# EAGLE library part TMS320F28335 (library TMS320F28335)
32-bit floating-point C28x core DSC
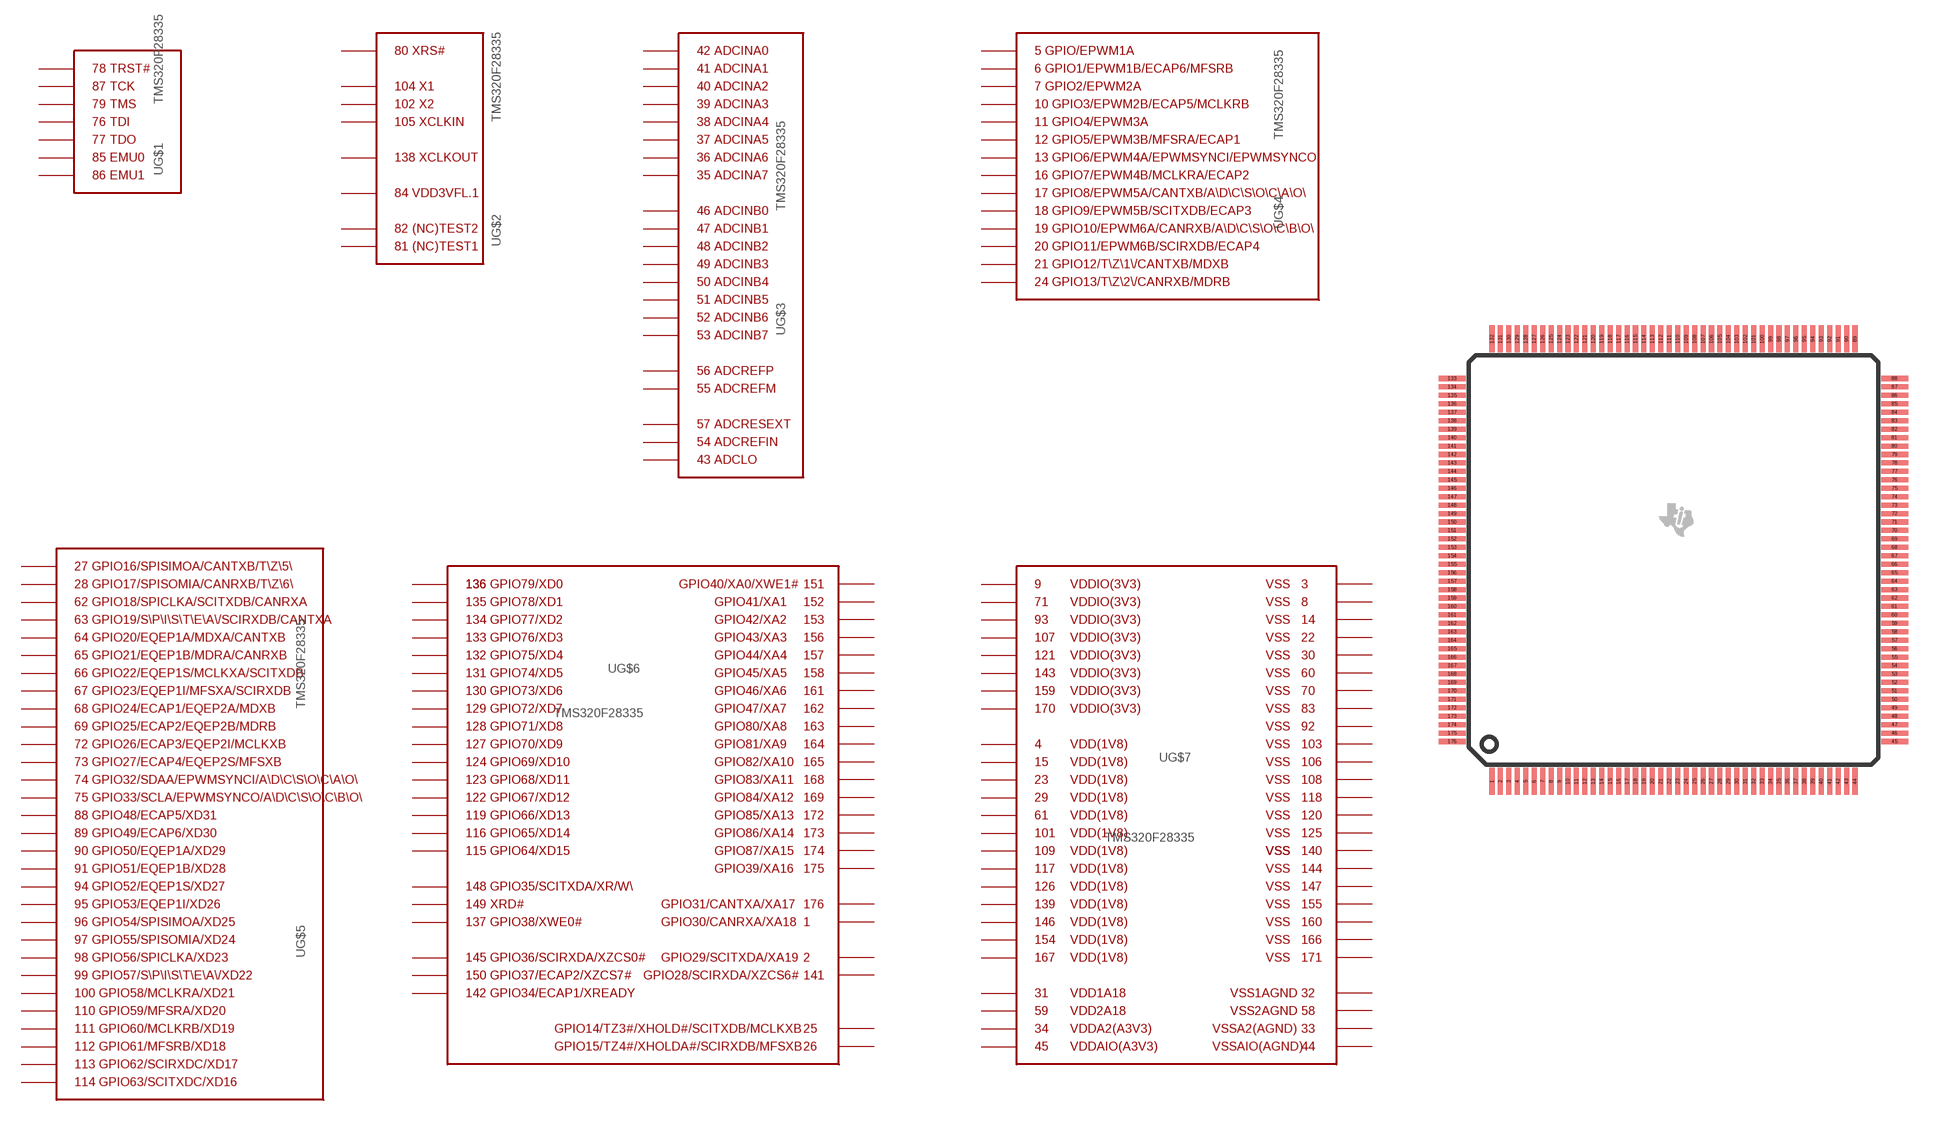
[diagram p0: symbol with the pads of LQFP176; footprint LQFP176]

Designator prefix U; gates G$1=28335_S1 G$2=28335_S2 G$3=28335_S3 G$4=28335_S4 G$5=28335_S5 G$6=28335_S6 G$7=28335_S7

## TMS320F28335  [LQFP176]
1  G$6:P$1
2  G$6:P$2
3  G$7:P$3
4  G$7:P$4
5  G$4:P$5
6  G$4:P$6
7  G$4:P$7
8  G$7:P$8
9  G$7:P$9
10  G$4:P$10
11  G$4:P$11
12  G$4:P$12
13  G$4:P$13
14  G$7:P$14
15  G$7:P$15
16  G$4:P$16
17  G$4:P$17
18  G$4:P$18
19  G$4:P$19
20  G$4:P$20
21  G$4:P$21
22  G$7:P$22
23  G$7:P$23
24  G$4:P$24
25  G$6:P$25
26  G$6:P$26
27  G$5:P$27
28  G$5:P$28
29  G$7:P$29
30  G$7:P$30
31  G$7:P$31
32  G$7:P$32
33  G$7:P$33
34  G$7:P$34
35  G$3:P$35
36  G$3:P$36
37  G$3:P$37
38  G$3:P$38
39  G$3:P$39
40  G$3:P$40
41  G$3:P$41
42  G$3:P$42
43  G$3:P$43
44  G$7:P$44
45  G$7:P$45
46  G$3:P$46
47  G$3:P$47
48  G$3:P$48
49  G$3:P$49
50  G$3:P$50
51  G$3:P$51
52  G$3:P$52
53  G$3:P$53
54  G$3:P$54
55  G$3:P$55
56  G$3:P$56
57  G$3:P$57
58  G$7:P$58
59  G$7:P$59
60  G$7:P$60
61  G$7:P$61
62  G$5:P$62
63  G$5:P$63
64  G$5:P$64
65  G$5:P$65
66  G$5:P$66
67  G$5:P$67
68  G$5:P$68
69  G$5:P$69
70  G$7:P$70
71  G$7:P$71
72  G$5:P$72
73  G$5:P$73
74  G$5:P$74
75  G$5:P$75
76  G$1:P$76
77  G$1:P$77
78  G$1:P$78
79  G$1:P$79
80  G$2:P$80
81  G$2:P$81
82  G$2:P$82
83  G$7:P$83
84  G$2:P$84
85  G$1:P$85
86  G$1:P$86
87  G$1:P$87
88  G$5:P$88
89  G$5:P$89
90  G$5:P$90
91  G$5:P$91
92  G$7:P$92
93  G$7:P$93
94  G$5:P$94
95  G$5:P$95
96  G$5:P$96
97  G$5:P$97
98  G$5:P$98
99  G$5:P$99
100  G$5:P$100
101  G$7:P$101
102  G$2:P$102
103  G$7:P$103
104  G$2:P$104
105  G$2:P$105
106  G$7:P$106
107  G$7:P$107
108  G$7:P$108
109  G$7:P$109
110  G$5:P$110
111  G$5:P$111
112  G$5:P$112
113  G$5:P$113
114  G$5:P$114
115  G$6:P$115
116  G$6:P$116
117  G$7:P$117
118  G$7:P$118
119  G$6:P$119
120  G$7:P$120
121  G$7:P$121
122  G$6:P$122
123  G$6:P$123
124  G$6:P$124
125  G$7:P$125
126  G$7:P$126
127  G$6:P$127
128  G$6:P$128
129  G$6:P$129
130  G$6:P$130
131  G$6:P$131
132  G$6:P$132
133  G$6:P$133
134  G$6:P$134
135  G$6:P$135
136  G$6:P$136
137  G$6:P$137
138  G$2:P$138
139  G$7:P$139
140  G$7:P$140
141  G$6:P$141
142  G$6:P$142
143  G$7:P$143
144  G$7:P$144
145  G$6:P$145
146  G$7:P$146
147  G$7:P$147
148  G$6:P$148
149  G$6:P$149
150  G$6:P$150
151  G$6:P$151
152  G$6:P$152
153  G$6:P$153
154  G$7:P$154
155  G$7:P$155
156  G$6:P$156
157  G$6:P$157
158  G$6:P$158
159  G$7:P$159
160  G$7:P$160
161  G$6:P$161
162  G$6:P$162
163  G$6:P$163
164  G$6:P$164
165  G$6:P$165
166  G$7:P$166
167  G$7:P$167
168  G$6:P$168
169  G$6:P$169
170  G$7:P$170
171  G$7:P$171
172  G$6:P$172
173  G$6:P$173
174  G$6:P$174
175  G$6:P$175
176  G$6:P$176

## Footprint LQFP176 (pad centres in mm)
smd 0.3 x 1.6: 1 -10.75,-13.1; 2 -10.25,-13.1; 3 -9.75,-13.1; 4 -9.25,-13.1; 5 -8.75,-13.1; 6 -8.25,-13.1; 7 -7.75,-13.1; 8 -7.25,-13.1; 9 -6.75,-13.1; 10 -6.25,-13.1; 11 -5.75,-13.1; 12 -5.25,-13.1; 13 -4.75,-13.1; 14 -4.25,-13.1; 15 -3.75,-13.1; 16 -3.25,-13.1; 17 -2.75,-13.1; 18 -2.25,-13.1; 19 -1.75,-13.1; 20 -1.25,-13.1; 21 -0.75,-13.1; 22 -0.25,-13.1; 23 0.25,-13.1; 24 0.75,-13.1; 25 1.25,-13.1; 26 1.75,-13.1; 27 2.25,-13.1; 28 2.75,-13.1; 29 3.25,-13.1; 30 3.75,-13.1; 31 4.25,-13.1; 32 4.75,-13.1; 33 5.25,-13.1; 34 5.75,-13.1; 35 6.25,-13.1; 36 6.75,-13.1; 37 7.25,-13.1; 38 7.75,-13.1; 39 8.25,-13.1; 40 8.75,-13.1; 41 9.25,-13.1; 42 9.75,-13.1; 43 10.25,-13.1; 44 10.75,-13.1; 89 10.75,13.1; 90 10.25,13.1; 91 9.75,13.1; 92 9.25,13.1; 93 8.75,13.1; 94 8.25,13.1; 95 7.75,13.1; 96 7.25,13.1; 97 6.75,13.1; 98 6.25,13.1; 99 5.75,13.1; 100 5.25,13.1; 101 4.75,13.1; 102 4.25,13.1; 103 3.75,13.1; 104 3.25,13.1; 105 2.75,13.1; 106 2.25,13.1; 107 1.75,13.1; 108 1.25,13.1; 109 0.75,13.1; 110 0.25,13.1; 111 -0.25,13.1; 112 -0.75,13.1; 113 -1.25,13.1; 114 -1.75,13.1; 115 -2.25,13.1; 116 -2.75,13.1; 117 -3.25,13.1; 118 -3.75,13.1; 119 -4.25,13.1; 120 -4.75,13.1; 121 -5.25,13.1; 122 -5.75,13.1; 123 -6.25,13.1; 124 -6.75,13.1; 125 -7.25,13.1; 126 -7.75,13.1; 127 -8.25,13.1; 128 -8.75,13.1; 129 -9.25,13.1; 130 -9.75,13.1; 131 -10.25,13.1; 132 -10.75,13.1
smd 1.6 x 0.3: 45 13.1,-10.75; 46 13.1,-10.25; 47 13.1,-9.75; 48 13.1,-9.25; 49 13.1,-8.75; 50 13.1,-8.25; 51 13.1,-7.75; 52 13.1,-7.25; 53 13.1,-6.75; 54 13.1,-6.25; 55 13.1,-5.75; 56 13.1,-5.25; 57 13.1,-4.75; 58 13.1,-4.25; 59 13.1,-3.75; 60 13.1,-3.25; 61 13.1,-2.75; 62 13.1,-2.25; 63 13.1,-1.75; 64 13.1,-1.25; 65 13.1,-0.75; 66 13.1,-0.25; 67 13.1,0.25; 68 13.1,0.75; 69 13.1,1.25; 70 13.1,1.75; 71 13.1,2.25; 72 13.1,2.75; 73 13.1,3.25; 74 13.1,3.75; 75 13.1,4.25; 76 13.1,4.75; 77 13.1,5.25; 78 13.1,5.75; 79 13.1,6.25; 80 13.1,6.75; 81 13.1,7.25; 82 13.1,7.75; 83 13.1,8.25; 84 13.1,8.75; 85 13.1,9.25; 86 13.1,9.75; 87 13.1,10.25; 88 13.1,10.75; 133 -13.1,10.75; 134 -13.1,10.25; 135 -13.1,9.75; 136 -13.1,9.25; 137 -13.1,8.75; 138 -13.1,8.25; 139 -13.1,7.75; 140 -13.1,7.25; 141 -13.1,6.75; 142 -13.1,6.25; 143 -13.1,5.75; 144 -13.1,5.25; 145 -13.1,4.75; 146 -13.1,4.25; 147 -13.1,3.75; 148 -13.1,3.25; 149 -13.1,2.75; 150 -13.1,2.25; 151 -13.1,1.75; 152 -13.1,1.25; 153 -13.1,0.75; 154 -13.1,0.25; 155 -13.1,-0.25; 156 -13.1,-0.75; 157 -13.1,-1.25; 158 -13.1,-1.75; 159 -13.1,-2.25; 160 -13.1,-2.75; 161 -13.1,-3.25; 162 -13.1,-3.75; 163 -13.1,-4.25; 164 -13.1,-4.75; 165 -13.1,-5.25; 166 -13.1,-5.75; 167 -13.1,-6.25; 168 -13.1,-6.75; 169 -13.1,-7.25; 170 -13.1,-7.75; 171 -13.1,-8.25; 172 -13.1,-8.75; 173 -13.1,-9.25; 174 -13.1,-9.75; 175 -13.1,-10.25; 176 -13.1,-10.75